# Altium schematic symbol library VPULSE.Schlib: 1 symbol
Pins are listed as number, name and electrical type; pins without a type are passive.

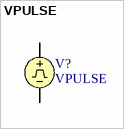
[diagram p0: symbol VPULSE]

## VPULSE
designator V?
Pulse Voltage Source
pins: 1, 2